# Altium footprint library 排针-排母.PcbLib: 177 footprints (part 9 of 12)
Each footprint in its own frame and in the unit in brackets; x right, y up, seen from the top. Pads: shape width x height; smd on the part's side, far side on the other; paste and mask are expansions set on the pad; w line width, h text height; cw(c..) or ccw(c..) is an arc to the next point about the centre after c.
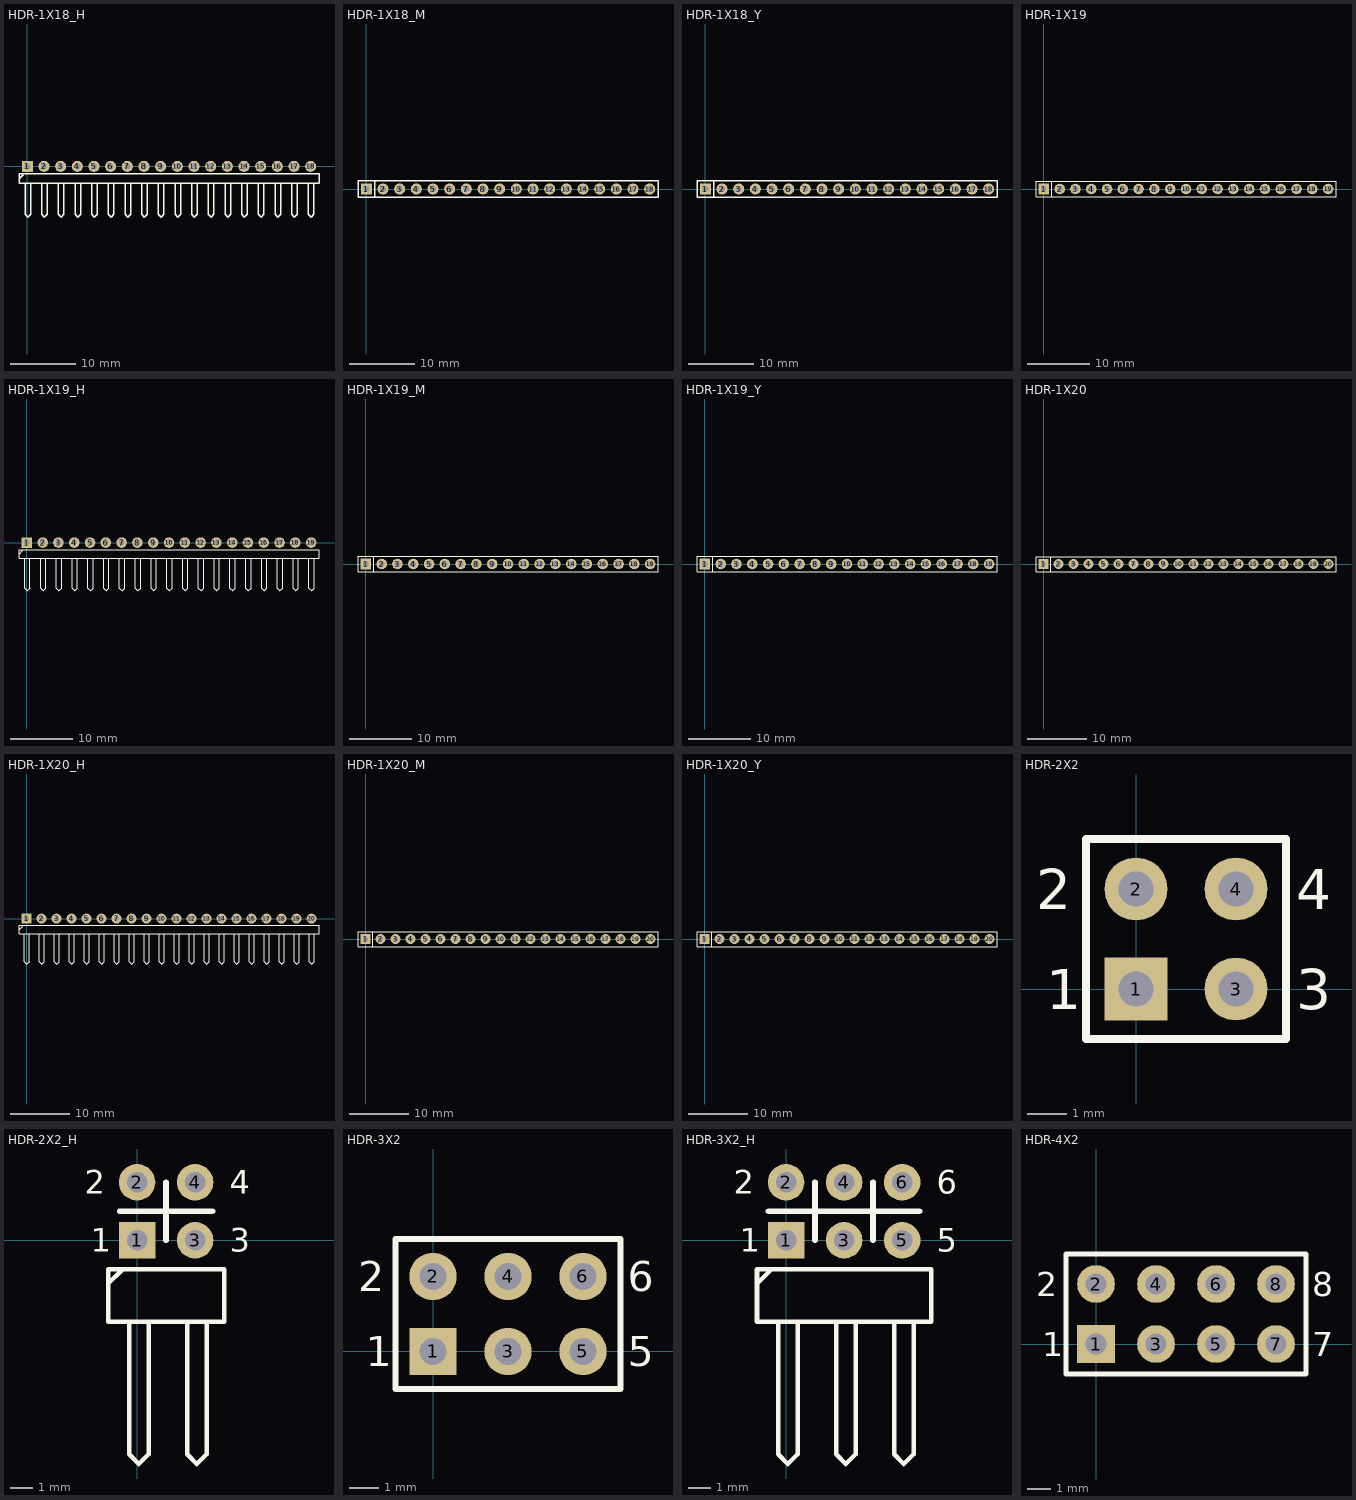
[diagram p8: the footprints below, top view; thin cyan lines are the x and y axes]

## HDR-1X18_H [mm] "弯脚排针，18脚"
pads (18):
  rect 1.7x1.7 hole 0.9: 1(0,0)
  round 1.7 hole 0.9: 2(2.54,0) 3(5.08,0) 4(7.62,0) 5(10.16,0) 6(12.7,0) 7(15.24,0) 8(17.78,0) 9(20.32,0) 10(22.86,0) 11(25.4,0) 12(27.94,0) 13(30.48,0) 14(33.02,0) 15(35.56,0) 16(38.1,0) 17(40.64,0) 18(43.18,0)
Top Overlay:
  lines w0.2: -1.27,-1.905 -0.635,-1.27 ; -0.348,-2.54 -0.348,-7.332 0.075,-7.755 0.499,-7.332 0.508,-7.323 ; 0.499,-7.323 0.499,-2.54 ; 2.192,-2.54 2.192,-7.332 2.615,-7.755 3.039,-7.332 ; 3.039,-7.323 3.039,-2.54 ; 4.732,-2.54 4.732,-7.332 5.155,-7.755 5.579,-7.332 ; 5.579,-7.323 5.579,-2.54 ; 7.272,-2.54 7.272,-7.332 7.695,-7.755 8.119,-7.332 ; 8.119,-7.323 8.119,-2.54 ; 9.812,-2.54 9.812,-7.332 10.235,-7.755 10.659,-7.332 ; 10.659,-7.323 10.659,-2.54 ; 12.352,-2.54 12.352,-7.332 12.775,-7.755 13.199,-7.332 ; 13.199,-7.323 13.199,-2.54 ; 14.892,-2.54 14.892,-7.332 15.315,-7.755 15.739,-7.332 ; 15.739,-7.323 15.739,-2.54 ; 17.432,-2.54 17.432,-7.332 17.855,-7.755 18.279,-7.332 ; 18.279,-7.323 18.279,-2.54 ; 19.972,-2.54 19.972,-7.332 20.395,-7.755 20.819,-7.332 ; 20.819,-7.323 20.819,-2.54 ; 22.512,-2.54 22.512,-7.332 22.935,-7.755 23.359,-7.332 ; 23.359,-7.323 23.359,-2.54 ; 25.052,-2.54 25.052,-7.332 25.475,-7.755 25.899,-7.332 ; 25.899,-7.323 25.899,-2.54 ; 27.592,-2.54 27.592,-7.332 28.015,-7.755 28.439,-7.332 ; 28.439,-7.323 28.439,-2.54 ; 30.132,-2.54 30.132,-7.332 30.555,-7.755 30.979,-7.332 ; 30.979,-7.323 30.979,-2.54 ; 32.672,-2.54 32.672,-7.332 33.095,-7.755 33.519,-7.332 ; 33.519,-7.323 33.519,-2.54 ; 35.212,-2.54 35.212,-7.332 35.635,-7.755 36.059,-7.332 ; 36.059,-7.323 36.059,-2.54 ; 37.752,-2.54 37.752,-7.332 38.175,-7.755 38.599,-7.332 ; 38.599,-7.323 38.599,-2.54 ; 40.292,-2.54 40.292,-7.332 40.715,-7.755 41.139,-7.332 ; 41.139,-7.323 41.139,-2.54 ; 42.832,-2.54 42.832,-7.332 43.255,-7.755 43.679,-7.332 ; 43.679,-7.323 43.679,-2.54 ; -1.27,-2.54 44.45,-2.54 44.45,-1.143 0.508,-1.143 -1.27,-1.143 -1.27,-2.54
3D body: height 4.85, standoff -3, extent -1.27,-7.77 1.27,1.27
3D body: height 4.85, standoff -3, extent 1.27,-7.77 3.81,1.27
3D body: height 4.85, standoff -3, extent 3.81,-7.77 6.35,1.27
3D body: height 4.85, standoff -3, extent 6.35,-7.77 8.89,1.27
3D body: height 4.85, standoff -3, extent 8.89,-7.77 11.43,1.27
3D body: height 4.85, standoff -3, extent 11.43,-7.77 13.97,1.27
3D body: height 4.85, standoff -3, extent 13.97,-7.77 16.51,1.27
3D body: height 4.85, standoff -3, extent 16.51,-7.77 19.05,1.27
3D body: height 4.85, standoff -3, extent 19.05,-7.77 21.59,1.27
3D body: height 4.85, standoff -3, extent 21.59,-7.77 24.13,1.27
3D body: height 4.85, standoff -3, extent 24.13,-7.77 26.67,1.27
3D body: height 4.85, standoff -3, extent 26.67,-7.77 29.21,1.27
3D body: height 4.85, standoff -3, extent 29.21,-7.77 31.75,1.27
3D body: height 4.85, standoff -3, extent 31.75,-7.77 34.29,1.27
3D body: height 4.85, standoff -3, extent 34.29,-7.77 36.83,1.27
3D body: height 4.85, standoff -3, extent 36.83,-7.77 39.37,1.27
3D body: height 4.85, standoff -3, extent 39.37,-7.77 41.91,1.27
3D body: height 4.85, standoff -3, extent 41.91,-7.77 44.45,1.27

## HDR-1X18_M [mm] "排母，18脚"
pads (18):
  rect 1.7x1.7 hole 0.9: 1(0,0)
  round 1.7 hole 0.9: 2(2.54,0) 3(5.08,0) 4(7.62,0) 5(10.16,0) 6(12.7,0) 7(15.24,0) 8(17.78,0) 9(20.32,0) 10(22.86,0) 11(25.4,0) 12(27.94,0) 13(30.48,0) 14(33.02,0) 15(35.56,0) 16(38.1,0) 17(40.64,0) 18(43.18,0)
Top Overlay:
  lines w0.2: 0.508,1.27 44.45,1.27 44.45,-1.27 -1.27,-1.27 -1.27,1.27 0.635,1.27 ; 1.25,-1.25 1.25,1.25
3D body: height 8.5, standoff -3, extent 36.83,-1.27 39.37,1.27
3D body: height 8.5, standoff -3, extent 39.37,-1.27 41.91,1.27
3D body: height 8.5, standoff -3, extent 41.91,-1.27 44.45,1.27
3D body: height 8.5, standoff -3, extent 24.13,-1.27 26.67,1.27
3D body: height 8.5, standoff -3, extent 26.67,-1.27 29.21,1.27
3D body: height 8.5, standoff -3, extent 29.21,-1.27 31.75,1.27
3D body: height 8.5, standoff -3, extent 31.75,-1.27 34.29,1.27
3D body: height 8.5, standoff -3, extent 34.29,-1.27 36.83,1.27
3D body: height 8.5, standoff -3, extent 11.43,-1.27 13.97,1.27
3D body: height 8.5, standoff -3, extent 13.97,-1.27 16.51,1.27
3D body: height 8.5, standoff -3, extent 16.51,-1.27 19.05,1.27
3D body: height 8.5, standoff -3, extent 19.05,-1.27 21.59,1.27
3D body: height 8.5, standoff -3, extent 21.59,-1.27 24.13,1.27
3D body: height 8.5, standoff -3, extent -1.27,-1.27 1.27,1.27
3D body: height 8.5, standoff -3, extent 1.27,-1.27 3.81,1.27
3D body: height 8.5, standoff -3, extent 3.81,-1.27 6.35,1.27
3D body: height 8.5, standoff -3, extent 6.35,-1.27 8.89,1.27
3D body: height 8.5, standoff -3, extent 8.89,-1.27 11.43,1.27

## HDR-1X18_Y [mm] "圆孔排母，18脚"
pads (18):
  rect 1.7x1.7 hole 0.9: 1(0,0)
  round 1.7 hole 0.9: 2(2.54,0) 3(5.08,0) 4(7.62,0) 5(10.16,0) 6(12.7,0) 7(15.24,0) 8(17.78,0) 9(20.32,0) 10(22.86,0) 11(25.4,0) 12(27.94,0) 13(30.48,0) 14(33.02,0) 15(35.56,0) 16(38.1,0) 17(40.64,0) 18(43.18,0)
Top Overlay:
  lines w0.2: 0.508,1.27 44.45,1.27 44.45,-1.27 -1.27,-1.27 -1.27,1.27 0.635,1.27 ; 1.25,-1.25 1.25,1.25
3D body: height 4.31, standoff -3, extent -1.27,-1.27 1.27,1.27
3D body: height 4.31, standoff -3, extent 1.27,-1.27 3.81,1.27
3D body: height 4.31, standoff -3, extent 3.81,-1.27 6.35,1.27
3D body: height 4.31, standoff -3, extent 6.35,-1.27 8.89,1.27
3D body: height 4.31, standoff -3, extent 8.89,-1.27 11.43,1.27
3D body: height 4.31, standoff -3, extent 11.43,-1.27 13.97,1.27
3D body: height 4.31, standoff -3, extent 13.97,-1.27 16.51,1.27
3D body: height 4.31, standoff -3, extent 16.51,-1.27 19.05,1.27
3D body: height 4.31, standoff -3, extent 19.05,-1.27 21.59,1.27
3D body: height 4.31, standoff -3, extent 21.59,-1.27 24.13,1.27
3D body: height 4.31, standoff -3, extent 24.13,-1.27 26.67,1.27
3D body: height 4.31, standoff -3, extent 26.67,-1.27 29.21,1.27
3D body: height 4.31, standoff -3, extent 29.21,-1.27 31.75,1.27
3D body: height 4.31, standoff -3, extent 31.75,-1.27 34.29,1.27
3D body: height 4.31, standoff -3, extent 34.29,-1.27 36.83,1.27
3D body: height 4.31, standoff -3, extent 36.83,-1.27 39.37,1.27
3D body: height 4.31, standoff -3, extent 39.37,-1.27 41.91,1.27
3D body: height 4.31, standoff -3, extent 41.91,-1.27 44.45,1.27

## HDR-1X19 [mm] "排针，19脚"
pads (19):
  rect 1.7x1.7 hole 0.9: 1(0,0)
  round 1.7 hole 0.9: 2(2.54,0) 3(5.08,0) 4(7.62,0) 5(10.16,0) 6(12.7,0) 7(15.24,0) 8(17.78,0) 9(20.32,0) 10(22.86,0) 11(25.4,0) 12(27.94,0) 13(30.48,0) 14(33.02,0) 15(35.56,0) 16(38.1,0) 17(40.64,0) 18(43.18,0) 19(45.72,0)
Top Overlay:
  lines w0.2: 1.25,-1.25 1.25,1.25 ; -1.27,-1.27 46.99,-1.27 46.99,1.27 0.635,1.27 -1.27,1.27 -1.27,-1.27
3D body: height 8.5, standoff -3, extent 1.27,-1.27 3.81,1.27
3D body: height 8.5, standoff -3, extent -1.27,-1.27 1.27,1.27
3D body: height 8.5, standoff -3, extent 6.35,-1.27 8.89,1.27
3D body: height 8.5, standoff -3, extent 3.81,-1.27 6.35,1.27
3D body: height 8.5, standoff -3, extent 8.89,-1.27 11.43,1.27
3D body: height 8.5, standoff -3, extent 13.97,-1.27 16.51,1.27
3D body: height 8.5, standoff -3, extent 11.43,-1.27 13.97,1.27
3D body: height 8.5, standoff -3, extent 19.05,-1.27 21.59,1.27
3D body: height 8.5, standoff -3, extent 16.51,-1.27 19.05,1.27
3D body: height 8.5, standoff -3, extent 21.59,-1.27 24.13,1.27
3D body: height 8.5, standoff -3, extent 26.67,-1.27 29.21,1.27
3D body: height 8.5, standoff -3, extent 24.13,-1.27 26.67,1.27
3D body: height 8.5, standoff -3, extent 31.75,-1.27 34.29,1.27
3D body: height 8.5, standoff -3, extent 29.21,-1.27 31.75,1.27
3D body: height 8.5, standoff -3, extent 34.29,-1.27 36.83,1.27
3D body: height 8.5, standoff -3, extent 39.37,-1.27 41.91,1.27
3D body: height 8.5, standoff -3, extent 36.83,-1.27 39.37,1.27
3D body: height 8.5, standoff -3, extent 44.45,-1.27 46.99,1.27
3D body: height 8.5, standoff -3, extent 41.91,-1.27 44.45,1.27

## HDR-1X19_H [mm] "弯脚排针，19脚"
pads (19):
  rect 1.7x1.7 hole 0.9: 1(0,0)
  round 1.7 hole 0.9: 2(2.54,0) 3(5.08,0) 4(7.62,0) 5(10.16,0) 6(12.7,0) 7(15.24,0) 8(17.78,0) 9(20.32,0) 10(22.86,0) 11(25.4,0) 12(27.94,0) 13(30.48,0) 14(33.02,0) 15(35.56,0) 16(38.1,0) 17(40.64,0) 18(43.18,0) 19(45.72,0)
Top Overlay:
  lines w0.2: -1.27,-1.905 -0.635,-1.27 ; -0.348,-2.54 -0.348,-7.332 0.075,-7.755 0.499,-7.332 0.508,-7.323 ; 0.499,-7.323 0.499,-2.54 ; 2.192,-2.54 2.192,-7.332 2.615,-7.755 3.039,-7.332 ; 3.039,-7.323 3.039,-2.54 ; 4.732,-2.54 4.732,-7.332 5.155,-7.755 5.579,-7.332 ; 5.579,-7.323 5.579,-2.54 ; 7.272,-2.54 7.272,-7.332 7.695,-7.755 8.119,-7.332 ; 8.119,-7.323 8.119,-2.54 ; 9.812,-2.54 9.812,-7.332 10.235,-7.755 10.659,-7.332 ; 10.659,-7.323 10.659,-2.54 ; 12.352,-2.54 12.352,-7.332 12.775,-7.755 13.199,-7.332 ; 13.199,-7.323 13.199,-2.54 ; 14.892,-2.54 14.892,-7.332 15.315,-7.755 15.739,-7.332 ; 15.739,-7.323 15.739,-2.54 ; 17.432,-2.54 17.432,-7.332 17.855,-7.755 18.279,-7.332 ; 18.279,-7.323 18.279,-2.54 ; 19.972,-2.54 19.972,-7.332 20.395,-7.755 20.819,-7.332 ; 20.819,-7.323 20.819,-2.54 ; 22.512,-2.54 22.512,-7.332 22.935,-7.755 23.359,-7.332 ; 23.359,-7.323 23.359,-2.54 ; 25.052,-2.54 25.052,-7.332 25.475,-7.755 25.899,-7.332 ; 25.899,-7.323 25.899,-2.54 ; 27.592,-2.54 27.592,-7.332 28.015,-7.755 28.439,-7.332 ; 28.439,-7.323 28.439,-2.54 ; 30.132,-2.54 30.132,-7.332 30.555,-7.755 30.979,-7.332 ; 30.979,-7.323 30.979,-2.54 ; 32.672,-2.54 32.672,-7.332 33.095,-7.755 33.519,-7.332 ; 33.519,-7.323 33.519,-2.54 ; 35.212,-2.54 35.212,-7.332 35.635,-7.755 36.059,-7.332 ; 36.059,-7.323 36.059,-2.54 ; 37.752,-2.54 37.752,-7.332 38.175,-7.755 38.599,-7.332 ; 38.599,-7.323 38.599,-2.54 ; 40.292,-2.54 40.292,-7.332 40.715,-7.755 41.139,-7.332 ; 41.139,-7.323 41.139,-2.54 ; 42.832,-2.54 42.832,-7.332 43.255,-7.755 43.679,-7.332 ; 43.679,-7.323 43.679,-2.54 ; 45.372,-2.54 45.372,-7.332 45.795,-7.755 46.219,-7.332 ; 46.219,-7.323 46.219,-2.54 ; -1.27,-2.54 -1.27,-1.143 0.508,-1.143 46.99,-1.143 46.99,-2.54 -1.27,-2.54
3D body: height 4.85, standoff -3, extent -1.27,-7.77 1.27,1.27
3D body: height 4.85, standoff -3, extent 1.27,-7.77 3.81,1.27
3D body: height 4.85, standoff -3, extent 3.81,-7.77 6.35,1.27
3D body: height 4.85, standoff -3, extent 6.35,-7.77 8.89,1.27
3D body: height 4.85, standoff -3, extent 8.89,-7.77 11.43,1.27
3D body: height 4.85, standoff -3, extent 11.43,-7.77 13.97,1.27
3D body: height 4.85, standoff -3, extent 13.97,-7.77 16.51,1.27
3D body: height 4.85, standoff -3, extent 16.51,-7.77 19.05,1.27
3D body: height 4.85, standoff -3, extent 19.05,-7.77 21.59,1.27
3D body: height 4.85, standoff -3, extent 21.59,-7.77 24.13,1.27
3D body: height 4.85, standoff -3, extent 24.13,-7.77 26.67,1.27
3D body: height 4.85, standoff -3, extent 26.67,-7.77 29.21,1.27
3D body: height 4.85, standoff -3, extent 29.21,-7.77 31.75,1.27
3D body: height 4.85, standoff -3, extent 31.75,-7.77 34.29,1.27
3D body: height 4.85, standoff -3, extent 34.29,-7.77 36.83,1.27
3D body: height 4.85, standoff -3, extent 36.83,-7.77 39.37,1.27
3D body: height 4.85, standoff -3, extent 39.37,-7.77 41.91,1.27
3D body: height 4.85, standoff -3, extent 41.91,-7.77 44.45,1.27
3D body: height 4.85, standoff -3, extent 44.45,-7.77 46.99,1.27

## HDR-1X19_M [mm] "排母，19脚"
pads (19):
  rect 1.7x1.7 hole 0.9: 1(0,0)
  round 1.7 hole 0.9: 2(2.54,0) 3(5.08,0) 4(7.62,0) 5(10.16,0) 6(12.7,0) 7(15.24,0) 8(17.78,0) 9(20.32,0) 10(22.86,0) 11(25.4,0) 12(27.94,0) 13(30.48,0) 14(33.02,0) 15(35.56,0) 16(38.1,0) 17(40.64,0) 18(43.18,0) 19(45.72,0)
Top Overlay:
  lines w0.2: 1.25,-1.25 1.25,1.25 ; -1.27,-1.27 46.99,-1.27 46.99,1.27 0.635,1.27 -1.27,1.27 -1.27,-1.27
3D body: height 8.5, standoff -3, extent 8.89,-1.27 11.43,1.27
3D body: height 8.5, standoff -3, extent 6.35,-1.27 8.89,1.27
3D body: height 8.5, standoff -3, extent 3.81,-1.27 6.35,1.27
3D body: height 8.5, standoff -3, extent 1.27,-1.27 3.81,1.27
3D body: height 8.5, standoff -3, extent -1.27,-1.27 1.27,1.27
3D body: height 8.5, standoff -3, extent 21.59,-1.27 24.13,1.27
3D body: height 8.5, standoff -3, extent 19.05,-1.27 21.59,1.27
3D body: height 8.5, standoff -3, extent 16.51,-1.27 19.05,1.27
3D body: height 8.5, standoff -3, extent 13.97,-1.27 16.51,1.27
3D body: height 8.5, standoff -3, extent 11.43,-1.27 13.97,1.27
3D body: height 8.5, standoff -3, extent 34.29,-1.27 36.83,1.27
3D body: height 8.5, standoff -3, extent 31.75,-1.27 34.29,1.27
3D body: height 8.5, standoff -3, extent 29.21,-1.27 31.75,1.27
3D body: height 8.5, standoff -3, extent 26.67,-1.27 29.21,1.27
3D body: height 8.5, standoff -3, extent 24.13,-1.27 26.67,1.27
3D body: height 8.5, standoff -3, extent 44.45,-1.27 46.99,1.27
3D body: height 8.5, standoff -3, extent 41.91,-1.27 44.45,1.27
3D body: height 8.5, standoff -3, extent 39.37,-1.27 41.91,1.27
3D body: height 8.5, standoff -3, extent 36.83,-1.27 39.37,1.27

## HDR-1X19_Y [mm] "圆孔排母，19脚"
pads (19):
  rect 1.7x1.7 hole 0.9: 1(0,0)
  round 1.7 hole 0.9: 2(2.54,0) 3(5.08,0) 4(7.62,0) 5(10.16,0) 6(12.7,0) 7(15.24,0) 8(17.78,0) 9(20.32,0) 10(22.86,0) 11(25.4,0) 12(27.94,0) 13(30.48,0) 14(33.02,0) 15(35.56,0) 16(38.1,0) 17(40.64,0) 18(43.18,0) 19(45.72,0)
Top Overlay:
  lines w0.2: 1.25,-1.25 1.25,1.25 ; -1.27,-1.27 -1.27,1.27 0.635,1.27 46.99,1.27 46.99,-1.27 -1.27,-1.27
3D body: height 4.31, standoff -3, extent -1.27,-1.27 1.27,1.27
3D body: height 4.31, standoff -3, extent 1.27,-1.27 3.81,1.27
3D body: height 4.31, standoff -3, extent 3.81,-1.27 6.35,1.27
3D body: height 4.31, standoff -3, extent 6.35,-1.27 8.89,1.27
3D body: height 4.31, standoff -3, extent 8.89,-1.27 11.43,1.27
3D body: height 4.31, standoff -3, extent 11.43,-1.27 13.97,1.27
3D body: height 4.31, standoff -3, extent 13.97,-1.27 16.51,1.27
3D body: height 4.31, standoff -3, extent 16.51,-1.27 19.05,1.27
3D body: height 4.31, standoff -3, extent 19.05,-1.27 21.59,1.27
3D body: height 4.31, standoff -3, extent 21.59,-1.27 24.13,1.27
3D body: height 4.31, standoff -3, extent 24.13,-1.27 26.67,1.27
3D body: height 4.31, standoff -3, extent 26.67,-1.27 29.21,1.27
3D body: height 4.31, standoff -3, extent 29.21,-1.27 31.75,1.27
3D body: height 4.31, standoff -3, extent 31.75,-1.27 34.29,1.27
3D body: height 4.31, standoff -3, extent 34.29,-1.27 36.83,1.27
3D body: height 4.31, standoff -3, extent 36.83,-1.27 39.37,1.27
3D body: height 4.31, standoff -3, extent 39.37,-1.27 41.91,1.27
3D body: height 4.31, standoff -3, extent 41.91,-1.27 44.45,1.27
3D body: height 4.31, standoff -3, extent 44.45,-1.27 46.99,1.27

## HDR-1X20 [mm] "排针，20脚"
pads (20):
  rect 1.7x1.7 hole 0.9: 1(0,0)
  round 1.7 hole 0.9: 2(2.54,0) 3(5.08,0) 4(7.62,0) 5(10.16,0) 6(12.7,0) 7(15.24,0) 8(17.78,0) 9(20.32,0) 10(22.86,0) 11(25.4,0) 12(27.94,0) 13(30.48,0) 14(33.02,0) 15(35.56,0) 16(38.1,0)
  round 1.7 hole 0.762: 17(40.64,0) 18(43.18,0) 19(45.72,0) 20(48.26,0)
Top Overlay:
  lines w0.2: 1.25,-1.25 1.25,1.25 ; -1.27,-1.27 -1.27,1.27 0.635,1.27 49.53,1.27 49.53,-1.27 -1.27,-1.27
3D body: height 8.5, standoff -3, extent 1.27,-1.27 3.81,1.27
3D body: height 8.5, standoff -3, extent -1.27,-1.27 1.27,1.27
3D body: height 8.5, standoff -3, extent 6.35,-1.27 8.89,1.27
3D body: height 8.5, standoff -3, extent 3.81,-1.27 6.35,1.27
3D body: height 8.5, standoff -3, extent 8.89,-1.27 11.43,1.27
3D body: height 8.5, standoff -3, extent 13.97,-1.27 16.51,1.27
3D body: height 8.5, standoff -3, extent 11.43,-1.27 13.97,1.27
3D body: height 8.5, standoff -3, extent 19.05,-1.27 21.59,1.27
3D body: height 8.5, standoff -3, extent 16.51,-1.27 19.05,1.27
3D body: height 8.5, standoff -3, extent 21.59,-1.27 24.13,1.27
3D body: height 8.5, standoff -3, extent 26.67,-1.27 29.21,1.27
3D body: height 8.5, standoff -3, extent 24.13,-1.27 26.67,1.27
3D body: height 8.5, standoff -3, extent 31.75,-1.27 34.29,1.27
3D body: height 8.5, standoff -3, extent 29.21,-1.27 31.75,1.27
3D body: height 8.5, standoff -3, extent 34.29,-1.27 36.83,1.27
3D body: height 8.5, standoff -3, extent 39.37,-1.27 41.91,1.27
3D body: height 8.5, standoff -3, extent 36.83,-1.27 39.37,1.27
3D body: height 8.5, standoff -3, extent 44.45,-1.27 46.99,1.27
3D body: height 8.5, standoff -3, extent 41.91,-1.27 44.45,1.27
3D body: height 8.5, standoff -3, extent 46.99,-1.27 49.53,1.27

## HDR-1X20_H [mm] "弯脚排针，20脚"
pads (20):
  rect 1.7x1.7 hole 0.9: 1(0,0)
  round 1.7 hole 0.9: 2(2.54,0) 3(5.08,0) 4(7.62,0) 5(10.16,0) 6(12.7,0) 7(15.24,0) 8(17.78,0) 9(20.32,0) 10(22.86,0) 11(25.4,0) 12(27.94,0) 13(30.48,0) 14(33.02,0) 15(35.56,0) 16(38.1,0) 17(40.64,0) 18(43.18,0) 19(45.72,0) 20(48.26,0)
Top Overlay:
  lines w0.2: -1.27,-1.905 -0.635,-1.27 ; -0.348,-2.54 -0.348,-7.332 0.075,-7.755 0.499,-7.332 0.508,-7.323 ; 0.499,-7.323 0.499,-2.54 ; 2.192,-2.54 2.192,-7.332 2.615,-7.755 3.039,-7.332 ; 3.039,-7.323 3.039,-2.54 ; 4.732,-2.54 4.732,-7.332 5.155,-7.755 5.579,-7.332 ; 5.579,-7.323 5.579,-2.54 ; 7.272,-2.54 7.272,-7.332 7.695,-7.755 8.119,-7.332 ; 8.119,-7.323 8.119,-2.54 ; 9.812,-2.54 9.812,-7.332 10.235,-7.755 10.659,-7.332 ; 10.659,-7.323 10.659,-2.54 ; 12.352,-2.54 12.352,-7.332 12.775,-7.755 13.199,-7.332 ; 13.199,-7.323 13.199,-2.54 ; 14.892,-2.54 14.892,-7.332 15.315,-7.755 15.739,-7.332 ; 15.739,-7.323 15.739,-2.54 ; 17.432,-2.54 17.432,-7.332 17.855,-7.755 18.279,-7.332 ; 18.279,-7.323 18.279,-2.54 ; 19.972,-2.54 19.972,-7.332 20.395,-7.755 20.819,-7.332 ; 20.819,-7.323 20.819,-2.54 ; 22.512,-2.54 22.512,-7.332 22.935,-7.755 23.359,-7.332 ; 23.359,-7.323 23.359,-2.54 ; 25.052,-2.54 25.052,-7.332 25.475,-7.755 25.899,-7.332 ; 25.899,-7.323 25.899,-2.54 ; 27.592,-2.54 27.592,-7.332 28.015,-7.755 28.439,-7.332 ; 28.439,-7.323 28.439,-2.54 ; 30.132,-2.54 30.132,-7.332 30.555,-7.755 30.979,-7.332 ; 30.979,-7.323 30.979,-2.54 ; 32.672,-2.54 32.672,-7.332 33.095,-7.755 33.519,-7.332 ; 33.519,-7.323 33.519,-2.54 ; 35.212,-2.54 35.212,-7.332 35.635,-7.755 36.059,-7.332 ; 36.059,-7.323 36.059,-2.54 ; 37.752,-2.54 37.752,-7.332 38.175,-7.755 38.599,-7.332 ; 38.599,-7.323 38.599,-2.54 ; 40.292,-2.54 40.292,-7.332 40.715,-7.755 41.139,-7.332 ; 41.139,-7.323 41.139,-2.54 ; 42.832,-2.54 42.832,-7.332 43.255,-7.755 43.679,-7.332 ; 43.679,-7.323 43.679,-2.54 ; 45.372,-2.54 45.372,-7.332 45.795,-7.755 46.219,-7.332 ; 46.219,-7.323 46.219,-2.54 ; 47.912,-2.54 47.912,-7.332 48.335,-7.755 48.759,-7.332 ; 48.759,-7.323 48.759,-2.54 ; -1.27,-2.54 49.53,-2.54 49.53,-1.143 0.508,-1.143 -1.27,-1.143 -1.27,-2.54
3D body: height 4.85, standoff -3, extent 46.99,-7.77 49.53,1.27
3D body: height 4.85, standoff -3, extent 44.45,-7.77 46.99,1.27
3D body: height 4.85, standoff -3, extent 41.91,-7.77 44.45,1.27
3D body: height 4.85, standoff -3, extent 39.37,-7.77 41.91,1.27
3D body: height 4.85, standoff -3, extent 36.83,-7.77 39.37,1.27
3D body: height 4.85, standoff -3, extent 34.29,-7.77 36.83,1.27
3D body: height 4.85, standoff -3, extent 31.75,-7.77 34.29,1.27
3D body: height 4.85, standoff -3, extent 29.21,-7.77 31.75,1.27
3D body: height 4.85, standoff -3, extent 26.67,-7.77 29.21,1.27
3D body: height 4.85, standoff -3, extent 24.13,-7.77 26.67,1.27
3D body: height 4.85, standoff -3, extent 21.59,-7.77 24.13,1.27
3D body: height 4.85, standoff -3, extent 19.05,-7.77 21.59,1.27
3D body: height 4.85, standoff -3, extent 16.51,-7.77 19.05,1.27
3D body: height 4.85, standoff -3, extent 13.97,-7.77 16.51,1.27
3D body: height 4.85, standoff -3, extent 11.43,-7.77 13.97,1.27
3D body: height 4.85, standoff -3, extent 8.89,-7.77 11.43,1.27
3D body: height 4.85, standoff -3, extent 6.35,-7.77 8.89,1.27
3D body: height 4.85, standoff -3, extent 3.81,-7.77 6.35,1.27
3D body: height 4.85, standoff -3, extent 1.27,-7.77 3.81,1.27
3D body: height 4.85, standoff -3, extent -1.27,-7.77 1.27,1.27

## HDR-1X20_M [mm] "排母，20脚"
pads (20):
  rect 1.7x1.7 hole 0.9: 1(0,0)
  round 1.7 hole 0.9: 2(2.54,0) 3(5.08,0) 4(7.62,0) 5(10.16,0) 6(12.7,0) 7(15.24,0) 8(17.78,0) 9(20.32,0) 10(22.86,0) 11(25.4,0) 12(27.94,0) 13(30.48,0) 14(33.02,0) 15(35.56,0) 16(38.1,0)
  round 1.7 hole 0.762: 17(40.64,0) 18(43.18,0) 19(45.72,0) 20(48.26,0)
Top Overlay:
  lines w0.2: 1.25,-1.25 1.25,1.25 ; -1.27,-1.27 -1.27,1.27 0.635,1.27 49.53,1.27 49.53,-1.27 -1.27,-1.27
3D body: height 8.5, standoff -3, extent 36.83,-1.27 39.37,1.27
3D body: height 8.5, standoff -3, extent 39.37,-1.27 41.91,1.27
3D body: height 8.5, standoff -3, extent 41.91,-1.27 44.45,1.27
3D body: height 8.5, standoff -3, extent 44.45,-1.27 46.99,1.27
3D body: height 8.5, standoff -3, extent 46.99,-1.27 49.53,1.27
3D body: height 8.5, standoff -3, extent 24.13,-1.27 26.67,1.27
3D body: height 8.5, standoff -3, extent 26.67,-1.27 29.21,1.27
3D body: height 8.5, standoff -3, extent 29.21,-1.27 31.75,1.27
3D body: height 8.5, standoff -3, extent 31.75,-1.27 34.29,1.27
3D body: height 8.5, standoff -3, extent 34.29,-1.27 36.83,1.27
3D body: height 8.5, standoff -3, extent 11.43,-1.27 13.97,1.27
3D body: height 8.5, standoff -3, extent 13.97,-1.27 16.51,1.27
3D body: height 8.5, standoff -3, extent 16.51,-1.27 19.05,1.27
3D body: height 8.5, standoff -3, extent 19.05,-1.27 21.59,1.27
3D body: height 8.5, standoff -3, extent 21.59,-1.27 24.13,1.27
3D body: height 8.5, standoff -3, extent -1.27,-1.27 1.27,1.27
3D body: height 8.5, standoff -3, extent 1.27,-1.27 3.81,1.27
3D body: height 8.5, standoff -3, extent 3.81,-1.27 6.35,1.27
3D body: height 8.5, standoff -3, extent 6.35,-1.27 8.89,1.27
3D body: height 8.5, standoff -3, extent 8.89,-1.27 11.43,1.27

## HDR-1X20_Y [mm] "圆孔排母，20脚"
pads (20):
  rect 1.7x1.7 hole 0.9: 1(0,0)
  round 1.7 hole 0.9: 2(2.54,0) 3(5.08,0) 4(7.62,0) 5(10.16,0) 6(12.7,0) 7(15.24,0) 8(17.78,0) 9(20.32,0) 10(22.86,0) 11(25.4,0) 12(27.94,0) 13(30.48,0) 14(33.02,0) 15(35.56,0) 16(38.1,0)
  round 1.7 hole 0.762: 17(40.64,0) 18(43.18,0) 19(45.72,0) 20(48.26,0)
Top Overlay:
  lines w0.2: 1.25,-1.25 1.25,1.25 ; -1.27,-1.27 -1.27,1.27 0.635,1.27 49.53,1.27 49.53,-1.27 -1.27,-1.27
3D body: height 4.31, standoff -3, extent 46.99,-1.27 49.53,1.27
3D body: height 4.31, standoff -3, extent 44.45,-1.27 46.99,1.27
3D body: height 4.31, standoff -3, extent 41.91,-1.27 44.45,1.27
3D body: height 4.31, standoff -3, extent 39.37,-1.27 41.91,1.27
3D body: height 4.31, standoff -3, extent 36.83,-1.27 39.37,1.27
3D body: height 4.31, standoff -3, extent 34.29,-1.27 36.83,1.27
3D body: height 4.31, standoff -3, extent 31.75,-1.27 34.29,1.27
3D body: height 4.31, standoff -3, extent 29.21,-1.27 31.75,1.27
3D body: height 4.31, standoff -3, extent 26.67,-1.27 29.21,1.27
3D body: height 4.31, standoff -3, extent 24.13,-1.27 26.67,1.27
3D body: height 4.31, standoff -3, extent 21.59,-1.27 24.13,1.27
3D body: height 4.31, standoff -3, extent 19.05,-1.27 21.59,1.27
3D body: height 4.31, standoff -3, extent 16.51,-1.27 19.05,1.27
3D body: height 4.31, standoff -3, extent 13.97,-1.27 16.51,1.27
3D body: height 4.31, standoff -3, extent 11.43,-1.27 13.97,1.27
3D body: height 4.31, standoff -3, extent 8.89,-1.27 11.43,1.27
3D body: height 4.31, standoff -3, extent 6.35,-1.27 8.89,1.27
3D body: height 4.31, standoff -3, extent 3.81,-1.27 6.35,1.27
3D body: height 4.31, standoff -3, extent 1.27,-1.27 3.81,1.27
3D body: height 4.31, standoff -3, extent -1.27,-1.27 1.27,1.27

## HDR-2X2 [mm] "双排排针，2x2脚"
pads (4):
  rect 1.6x1.6 hole 0.9: 1(0,0)
  round 1.6 hole 0.9: 2(0,2.54) 3(2.54,0) 4(2.54,2.54)
Top Overlay:
  lines w0.2: -1.27,-1.27 -1.27,3.81 3.81,3.81 3.81,-1.27 -1.27,-1.27
  text "1" at -2.286,-0.508 h1.02
  text "2" at -2.54,2.032 h1.02
  text "4" at 4.064,2.032 h1.02
  text "3" at 4.064,-0.508 h1.02
3D body: height 8.5, standoff -3, extent -1.27,-1.27 1.27,3.81
3D body: height 8.5, standoff -3, extent 1.27,-1.27 3.81,3.81

## HDR-2X2_H [mm] "双排弯脚排针，2x2脚"
pads (4):
  rect 1.6x1.6 hole 0.9: 1(0,0)
  round 1.6 hole 0.9: 2(0,2.54) 3(2.54,0) 4(2.54,2.54)
Top Overlay:
  lines w0.2: -1.27,-1.905 -0.635,-1.27 ; -0.348,-9.364 0.075,-9.787 0.499,-9.364 0.508,-9.355 0.508,-3.556 ; -0.339,-9.364 -0.339,-3.556 ; 2.192,-9.364 2.615,-9.787 3.039,-9.364 ; 2.201,-9.364 2.201,-3.556 ; 3.048,-9.364 3.048,-3.556 ; -1.27,-3.556 -1.27,-1.27 3.81,-1.27 3.81,-3.556 -1.27,-3.556
  lines w0.254: -0.762,1.27 3.302,1.27 ; 1.27,0 1.27,2.54
  text "3" at 4.064,-0.508 h1.02
  text "4" at 4.064,2.032 h1.02
  text "2" at -2.286,2.032 h1.02
  text "1" at -2.032,-0.508 h1.02
Bottom Overlay:
  lines w0.254: -0.762,1.27 3.302,1.27 ; 1.27,0 1.27,2.54
3D body: height 5.1, standoff -3, extent -1.27,-9.96 1.27,2.89
3D body: height 5.1, standoff -3, extent 1.27,-9.96 3.81,2.89

## HDR-3X2 [mm] "双排排针，3x2脚"
pads (6):
  rect 1.6x1.6 hole 0.9: 1(0,0)
  round 1.6 hole 0.9: 2(0,2.54) 3(2.54,0) 4(2.54,2.54) 5(5.08,0) 6(5.08,2.54)
Top Overlay:
  lines w0.2: 1.482,-1.27 6.35,-1.27 ; 6.35,-1.27 -1.27,-1.27 -1.27,3.81 6.35,3.81 6.35,-1.27
  text "1" at -2.286,-0.508 h1.02
  text "2" at -2.54,2.032 h1.02
  text "5" at 6.604,-0.508 h1.02
  text "6" at 6.604,2.032 h1.02
3D body: height 8.5, standoff -3, extent 1.27,-1.27 3.81,3.81
3D body: height 8.5, standoff -3, extent -1.27,-1.27 1.27,3.81
3D body: height 8.5, standoff -3, extent 3.81,-1.27 6.35,3.81

## HDR-3X2_H [mm] "双排弯脚排针，3x2脚"
pads (6):
  rect 1.6x1.6 hole 0.9: 1(0,0)
  round 1.6 hole 0.9: 2(0,2.54) 3(2.54,0) 4(2.54,2.54) 5(5.08,0) 6(5.08,2.54)
Top Overlay:
  lines w0.2: -1.27,-1.905 -0.635,-1.27 ; -0.348,-9.364 0.075,-9.787 0.499,-9.364 0.508,-9.355 0.508,-3.556 ; -0.339,-9.364 -0.339,-3.556 ; 2.192,-9.364 2.615,-9.787 3.039,-9.364 ; 2.201,-9.364 2.201,-3.556 ; 3.048,-9.364 3.048,-3.556 ; 4.732,-9.364 5.155,-9.787 5.579,-9.364 ; 4.741,-9.364 4.741,-3.556 ; 5.588,-9.364 5.588,-3.556 ; -1.27,-3.556 -1.27,-1.27 6.35,-1.27 6.35,-3.556 -1.27,-3.556
  lines w0.254: -0.762,1.27 5.842,1.27 ; 1.27,0 1.27,2.54 ; 3.81,0 3.81,2.54
  text "1" at -2.032,-0.508 h1.02
  text "2" at -2.286,2.032 h1.02
  text "5" at 6.604,-0.508 h1.02
  text "6" at 6.604,2.032 h1.02
Bottom Overlay:
  lines w0.254: -0.762,1.27 5.842,1.27 ; 1.27,0 1.27,2.54 ; 3.81,0 3.81,2.54
3D body: height 5.1, standoff -3, extent 3.81,-9.96 6.35,2.89
3D body: height 5.1, standoff -3, extent -1.27,-9.96 1.27,2.89
3D body: height 5.1, standoff -3, extent 1.27,-9.96 3.81,2.89

## HDR-4X2 [mm] "双排排针，4x2脚"
pads (8):
  rect 1.6x1.6 hole 0.9: 1(0,0)
  round 1.6 hole 0.9: 2(0,2.54) 3(2.54,0) 4(2.54,2.54) 5(5.08,0) 6(5.08,2.54) 7(7.62,0) 8(7.62,2.54)
Top Overlay:
  lines w0.2: 1.482,-1.27 8.89,-1.27 8.89,3.81 -1.27,3.81 -1.27,-1.27 6.35,-1.27
  text "8" at 9.144,2.032 h1.02
  text "1" at -2.286,-0.508 h1.02
  text "2" at -2.54,2.032 h1.02
  text "7" at 9.144,-0.508 h1.02
3D body: height 8.5, standoff -3, extent 1.27,-1.27 3.81,3.81
3D body: height 8.5, standoff -3, extent -1.27,-1.27 1.27,3.81
3D body: height 8.5, standoff -3, extent 6.35,-1.27 8.89,3.81
3D body: height 8.5, standoff -3, extent 3.81,-1.27 6.35,3.81